# EAGLE library part USB (library IntegerLabs)
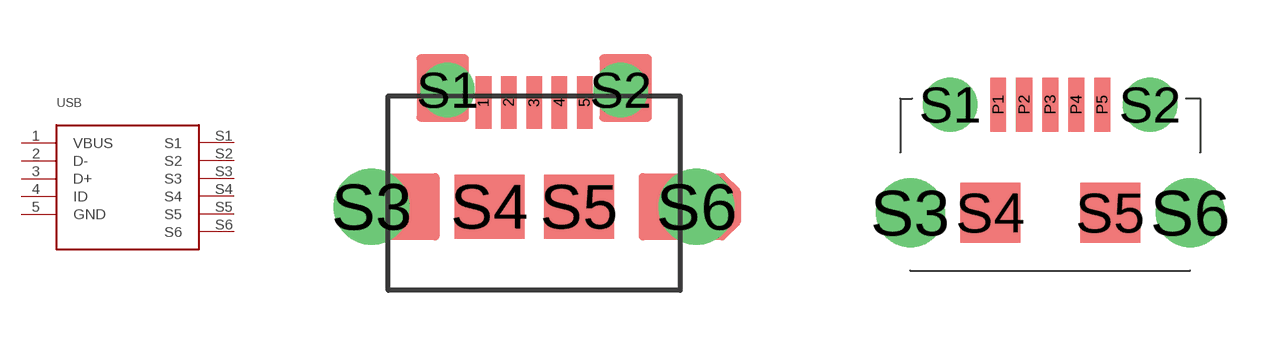
[diagram p13: symbol with the pads of MOLEX-MICROAB; footprints MOLEX-MICROAB, USB-MICROB-FCI]

Designator prefix -

## USBMOLEX-MICROAB  [MOLEX-MICROAB]
1  VBUS
2  D-
3  D+
4  ID
5  GND
S1  S1
S2  S2
S3  S3
S4  S4
S5  S5
S6  S6

## USBFCI-MICROB  [USB-MICROB-FCI]
P1  VBUS
P2  D-
P3  D+
P4  ID
P5  GND
S1  S1
S2  S2
S3  S3
S4  S4
S5  S5
S6  S6

## Footprint MOLEX-MICROAB (pad centres in mm)
smd 0.4 x 1.35: 1 -1.3,2.675; 2 -0.65,2.675; 3 0,2.675; 4 0.65,2.675; 5 1.3,2.675
drill 0.889 pad 1.143: S1 -2.225,3; S2 2.225,3
drill 1.3 pad 1.524: S3 -4.175,0
smd 1.8 x 1.651: S4 -1.15,0; S5 1.15,0
drill 1.3 pad 1.676: S6 4.175,0

## Footprint USB-MICROB-FCI (pad centres in mm)
smd 0.4 x 1.35: P1 -1.3,2.7; P2 -0.65,2.7; P3 0,2.7; P4 0.65,2.7; P5 1.3,2.7
drill 0.85: S1 -2.5,2.7; S2 2.5,2.7
drill 1.15: S3 -3.5,0; S6 3.5,0
smd 1.5 x 1.5: S4 -1.5,0; S5 1.5,0